# Altium schematic symbol library Miscellaneous Transistor.SchLib: 26 symbols
Pins are listed as number, name and electrical type; pins without a type are passive.

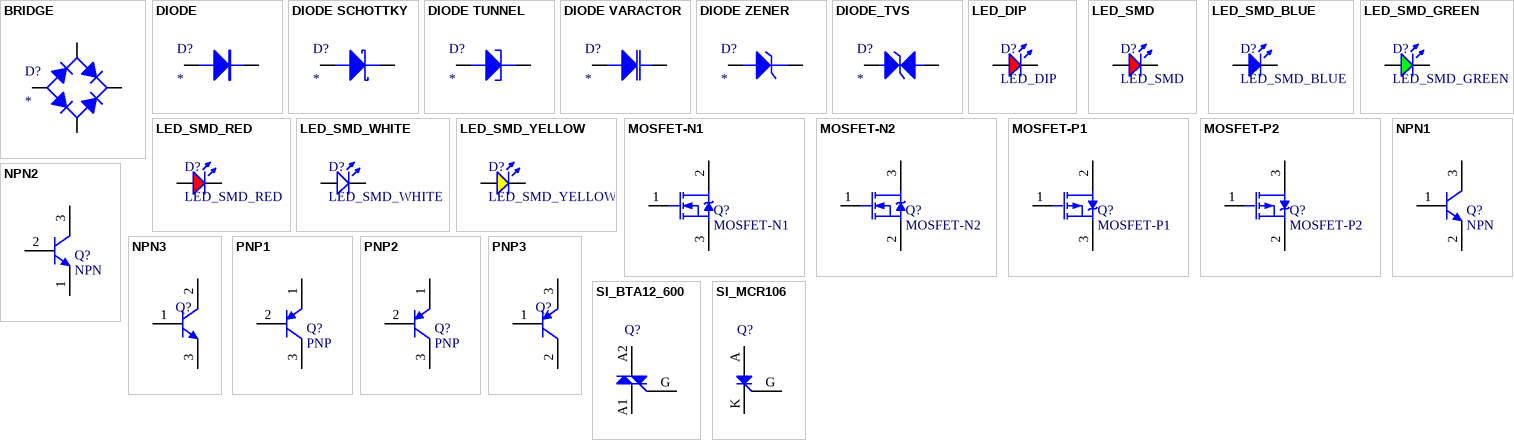
[diagram p0: symbols BRIDGE to SI_MCR106]

## BRIDGE
designator D?
整流桥
footprint Bridge_br3
footprint Bridge_BR8
footprint Bridge_DB
footprint Bridge_DB107
footprint Bridge_DB107S
footprint Bridge_DBS
footprint Bridge_GBP
footprint Bridge_GBU
footprint Bridge_KBL
footprint Bridge_KBP
footprint Bridge_KBPC
footprint Bridge_KBPC2
footprint Bridge_KBU
footprint Bridge_MB10S
footprint Bridge_MBF
footprint Bridge_WOM
footprint Bridge_MBM
footprint Bridge_MBS
pins: AC1, AC2, DC+, DC-

## DIODE
designator D?
普通二极管
footprint DO-15
footprint DO-15L
footprint DO-15LV
footprint DO-15V
footprint DO-27
footprint DO-27V
footprint DO-35
footprint DO-35V
footprint DO-41
footprint DO-41G
footprint DO-41GV
footprint DO-41V
footprint DO-201AD
footprint DO-201ADV
footprint DIODE_1206
footprint DO-214AC/SMA (塑封二极管)
footprint DO-214AA/SMB (塑封二极管)
footprint DO-214AB/SMC (塑封二极管)
footprint SOD-123 (塑封二极管)
footprint SOD-323 (塑封二极管)
footprint SOD-523 (塑封二极管)
pins: A, K

## DIODE SCHOTTKY
designator D?
肖特基二极管
footprint DO-15
footprint DO-15L
footprint DO-15LV
footprint DO-15V
footprint DO-27
footprint DO-27V
footprint DO-35
footprint DO-35V
footprint DO-41
footprint DO-41G
footprint DO-41GV
footprint DO-41V
footprint DO-201AD
footprint DO-201ADV
footprint DIODE_1206
footprint DO-214AA/SMB (塑封二极管)
footprint DO-214AB/SMC (塑封二极管)
footprint DO-214AC/SMA (塑封二极管)
footprint SOD-123 (塑封二极管)
footprint SOD-323 (塑封二极管)
footprint SOD-523 (塑封二极管)
pins: A, K

## DIODE TUNNEL
designator D?
隧道二极管
footprint DO-15
footprint DO-15L
footprint DO-15LV
footprint DO-15V
footprint DO-27
footprint DO-27V
footprint DO-35
footprint DO-35V
footprint DO-41
footprint DO-41G
footprint DO-41GV
footprint DO-41V
footprint DO-201AD
footprint DO-201ADV
footprint DIODE_1206
footprint DO-214AC/SMA (塑封二极管)
footprint DO-214AA/SMB (塑封二极管)
footprint DO-214AB/SMC (塑封二极管)
footprint SOD-123 (塑封二极管)
footprint SOD-323 (塑封二极管)
footprint SOD-523 (塑封二极管)
pins: A, K

## DIODE VARACTOR
designator D?
变容二极管
footprint DO-15
footprint DO-15L
footprint DO-15LV
footprint DO-15V
footprint DO-27
footprint DO-27V
footprint DO-35
footprint DO-35V
footprint DO-41
footprint DO-41G
footprint DO-41GV
footprint DO-41V
footprint DO-201AD
footprint DO-201ADV
footprint DIODE_1206
footprint DO-214AC/SMA (塑封二极管)
footprint DO-214AA/SMB (塑封二极管)
footprint DO-214AB/SMC (塑封二极管)
footprint SOD-123 (塑封二极管)
footprint SOD-323 (塑封二极管)
footprint SOD-523 (塑封二极管)
pins: A, K

## DIODE ZENER
designator D?
稳压二极管
footprint DO-15
footprint DO-15L
footprint DO-15LV
footprint DO-15V
footprint DO-27
footprint DO-27V
footprint DO-35
footprint DO-35V
footprint DO-41
footprint DO-41G
footprint DO-41GV
footprint DO-41V
footprint DO-201AD
footprint DO-201ADV
footprint DIODE_1206
footprint DO-214AC/SMA (塑封二极管)
footprint DO-214AA/SMB (塑封二极管)
footprint DO-214AB/SMC (塑封二极管)
footprint SOD-123 (塑封二极管)
footprint SOD-323 (塑封二极管)
footprint SOD-523 (塑封二极管)
pins: A, K

## DIODE_TVS
designator D?
双向瞬态抑制二极管
footprint DO-15
footprint DO-15L
footprint DO-15LV
footprint DO-15V
footprint DO-27
footprint DO-27V
footprint DO-35
footprint DO-35V
footprint DO-41
footprint DO-41G
footprint DO-41GV
footprint DO-41V
footprint DO-201AD
footprint DO-201ADV
footprint DIODE_1206
footprint DO-214AC/SMA (塑封二极管)
footprint DO-214AA/SMB (塑封二极管)
footprint DO-214AB/SMC (塑封二极管)
footprint SOD-123 (塑封二极管)
footprint SOD-323 (塑封二极管)
footprint SOD-523 (塑封二极管)
pins: A, K

## LED_DIP
designator D?
发光二极管
footprint LED_3MM
footprint LED_3MM_3PIN
footprint LED_3MM_RA
footprint LED_5MM
footprint LED_5MM_RA
footprint LED_5MM_3PIN
footprint LED_5MM_RGB
pins: 1 A, 2 K

## LED_SMD
designator D?
发光二极管
footprint LED_1W
footprint LED_2835
footprint LED_3528
footprint LED_3528_RGB
footprint LED_5050
footprint LED_5730
pins: 1 A, 2 K

## LED_SMD_BLUE
designator D?
发光二极管; ComponentLink1Description: 供应商链接; ComponentLink1URL: http://www.szlcsc.com/product/details_73150.html; Package: 0603; Supplier: LC; SuppliersPartNumber: C72041
footprint LED_0603_B
footprint LED_0805_B
footprint LED_1206_B
pins: 1 A, 2 K

## LED_SMD_GREEN
designator D?
发光二极管; ComponentLink1Description: 供应商链接; ComponentLink1URL: http://www.szlcsc.com/product/details_73152.html; Package: 0603; Supplier: LC; SuppliersPartNumber: C72043
footprint LED_0603_G
footprint LED_0805_G
footprint LED_1206_G
pins: 1 A, 2 K

## LED_SMD_RED
designator D?
发光二极管; ComponentLink1Description: 供应商链接; ComponentLink1URL: http://www.szlcsc.com/product/details_2659.html; Package: 0603; Supplier: LC; SuppliersPartNumber: C2286
footprint LED_0603_R
footprint LED_0805_R
footprint LED_1206_R
pins: 1 A, 2 K

## LED_SMD_WHITE
designator D?
发光二极管; ComponentLink1Description: 供应商链接; ComponentLink1URL: http://www.szlcsc.com/product/details_2663.html; Package: 0603; Supplier: LC; SuppliersPartNumber: C2290
footprint LED_0603_W
footprint LED_0805_W
footprint LED_1206_W
pins: 1 A, 2 K

## LED_SMD_YELLOW
designator D?
发光二极管; ComponentLink1Description: 供应商链接; ComponentLink1URL: http://www.szlcsc.com/product/details_73147.html; Package: 0603; Supplier: LC; SuppliersPartNumber: C72038
footprint LED_0603_Y
footprint LED_0805_Y
footprint LED_1206_Y
pins: 1 A, 2 K

## MOSFET-N1
designator Q?
N-Channel MOSFET; PackageDocument: 1995/1996; Published: 8-Jun-2000; LatestRevisionDate: 17-Jul-2002; LatestRevisionNote: Re-released for DXP Platform.; PackageReference: E3; Publisher: Altium Limited
footprint TO220-3 (220，3脚晶体管)
footprint TO252-3 (D2-PAK)
footprint TO220-3 - cooling
pins: 1 G, 2 D, 3 S

## MOSFET-N2
designator Q?
N-Channel MOSFET; PackageDocument: 1995/1996; Published: 8-Jun-2000; LatestRevisionDate: 17-Jul-2002; LatestRevisionNote: Re-released for DXP Platform.; PackageReference: E3; Publisher: Altium Limited
footprint SOT23-3
pins: 1 G, 2 S, 3 D

## MOSFET-P1
designator Q?
P-Channel MOSFET; PackageDocument: 1995/1996; Published: 8-Jun-2000; LatestRevisionDate: 17-Jul-2002; LatestRevisionNote: Re-released for DXP Platform.; PackageReference: E3; Publisher: Altium Limited
footprint TO220-3 (220，3脚晶体管)
footprint TO220-3 - cooling
footprint TO252-3 (D2-PAK)
pins: 1 G, 2 S, 3 D

## MOSFET-P2
designator Q?
P-Channel MOSFET; PackageDocument: 1995/1996; Published: 8-Jun-2000; LatestRevisionDate: 17-Jul-2002; LatestRevisionNote: Re-released for DXP Platform.; PackageReference: E3; Publisher: Altium Limited
footprint SOT23-3
pins: 1 G, 2 S, 3 D

## NPN1
designator Q?, comment NPN
贴片三极管; Published: 8-Jun-2000; LatestRevisionDate: 15-Jan-2003; LatestRevisionNote: PCB Footprint 'BCY-W3/D4.7' replaced; DatasheetDocument: 1997; PackageDocument: Sep-1998; PackageReference: TO-92A; Publisher: Altium Limited; Code_JEDEC: TO-92A; ComponentLink1Description: Manufacturer Link; ComponentLink1URL: http://www.fairchildsemi.com/; ComponentLink2Description: Datasheet; ComponentLink2URL: http://www.fairchildsemi.com/ds/2N%2F2N3904.pdf
footprint SOT23-3
pins: 1 B, 2 E, 3 C

## NPN2
designator Q?, comment NPN
三极管; Published: 8-Jun-2000; LatestRevisionDate: 15-Jan-2003; LatestRevisionNote: PCB Footprint 'BCY-W3/D4.7' replaced; DatasheetDocument: 1997; PackageDocument: Sep-1998; PackageReference: TO-92A; Publisher: Altium Limited; Code_JEDEC: TO-92A; ComponentLink1Description: Manufacturer Link; ComponentLink1URL: http://www.fairchildsemi.com/; ComponentLink2Description: Datasheet; ComponentLink2URL: http://www.fairchildsemi.com/ds/2N%2F2N3904.pdf
footprint TO_92A
pins: 1 E, 2 B, 3 C

## NPN3
designator Q?
footprint TO220-3 (TO, Thru-Hole, Vertical, Heatsink Mounted; 3 In-Line Leads; Pitch 2.54 mm)
footprint TO220-3 - cooling
pins: 1 E, 2 B, 3 C

## PNP1
designator Q?, comment PNP
贴片三极管; Published: 8-Jun-2000; LatestRevisionDate: 15-Jan-2003; LatestRevisionNote: PCB Footprint 'BCY-W3/D4.7' replaced; DatasheetDocument: 1997; PackageDocument: Sep-1998; PackageReference: TO-92A; Publisher: Altium Limited; Code_JEDEC: TO-92A; ComponentLink1Description: Manufacturer Link; ComponentLink1URL: http://www.fairchildsemi.com/; ComponentLink2Description: Datasheet; ComponentLink2URL: http://www.fairchildsemi.com/ds/2N%2F2N3906.pdf
footprint SOT23-3
pins: 1 E, 2 B, 3 C

## PNP2
designator Q?, comment PNP
三极管; Published: 8-Jun-2000; LatestRevisionDate: 15-Jan-2003; LatestRevisionNote: PCB Footprint 'BCY-W3/D4.7' replaced; DatasheetDocument: 1997; PackageDocument: Sep-1998; PackageReference: TO-92A; Publisher: Altium Limited; Code_JEDEC: TO-92A; ComponentLink1Description: Manufacturer Link; ComponentLink1URL: http://www.fairchildsemi.com/; ComponentLink2Description: Datasheet; ComponentLink2URL: http://www.fairchildsemi.com/ds/2N%2F2N3906.pdf
footprint TO_92A
pins: 1 E, 2 B, 3 C

## PNP3
designator Q?
footprint TO220-3 (TO, Thru-Hole, Vertical, Heatsink Mounted; 3 In-Line Leads; Pitch 2.54 mm)
footprint TO220-3 - cooling
pins: 1 E, 2 B, 3 C

## SI_BTA12_600
designator Q?
双向可控硅
pins: A1, A2, G

## SI_MCR106
designator Q?
单向可控硅
pins: A, G, K